# Altium integrated library Capacitors - Ceramic - 0402.IntLib: 4569 symbols (part 67 of 100)
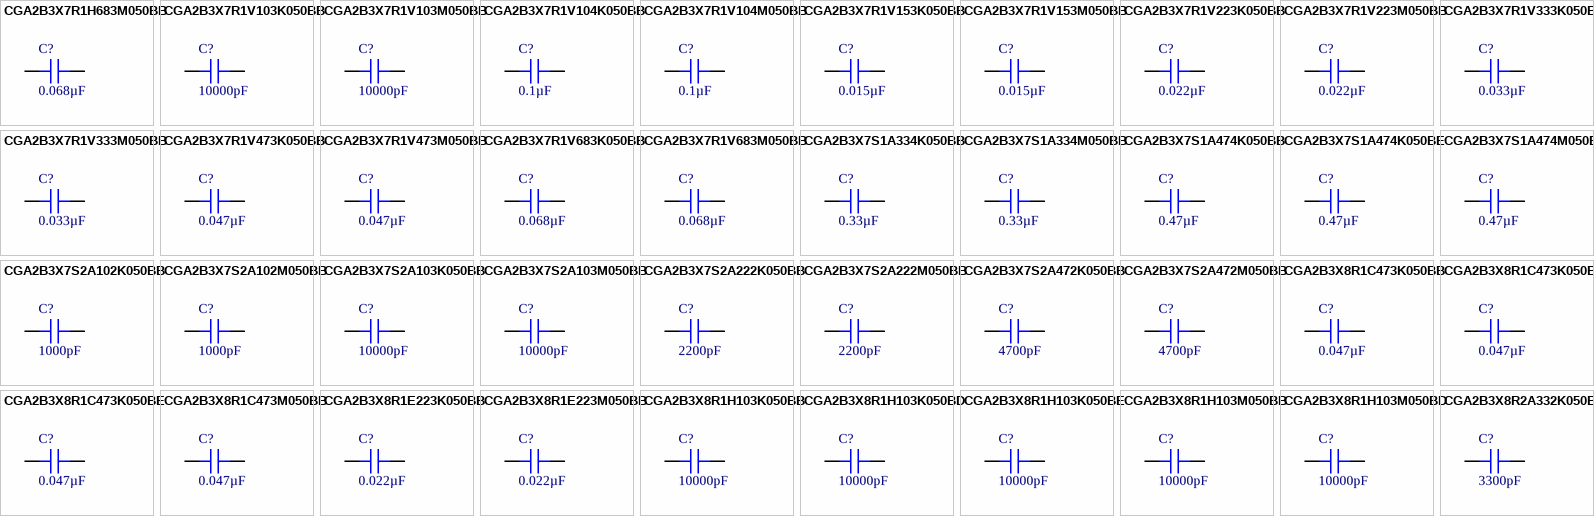
[diagram p180: symbols CGA2B3X7R1H683M050BB to CGA2B3X8R2A332K050BB]

## CGA2B3X8R1C473K050BE
designator C?, comment 0.047µF
CAP CER 0.047UF 16V X8R 0402; Part Number: CGA2B3X8R1C473K050BE; Manufacturer: TDK Corporation; Tolerance: ±10%; Value: 0.047µF; Applications: Automotive, Boardflex Sensitive; Capacitance: 0.047µF; ComponentLink1Description: Datasheet; ComponentLink1URL: https://product.tdk.com/info/en/catalog/datasheets/mlcc_automotive_soft_en.pdf?ref_disty=digikey; ComponentLink2Description: DigiKey Link; ComponentLink2URL: http://digikey.com/product-detail/en/tdk-corporation/CGA2B3X8R1C473K050BE/445-173843-1-ND/5809914; Device Package: 0402 (1005 Metric); Features: Soft Termination; LastUpdated: 9/2/2020 1:02:18 AM; Lifecycle Status: Active; Minimum Order: 1; Mounting Type: Surface Mount, MLCC; Operating Temperature: -55°C ~ 150°C; Package / Case: 0402 (1005 Metric); Packaging: TapeAndReel; PartId: 4360; Part Status: Active; Price: 0.04; Ratings: AEC-Q200; Series: CGA; Size / Dimension: 0.039" L x 0.020" W (1.00mm x 0.50mm); Supplier 1: DigiKey; Supplier Part Number 1: 445-173843-1-ND; Temperature Coefficient: X8R; Thickness (Max): 0.024" (0.60mm); Voltage - Rated: 16V
footprint CAP 0402_1005
pins: 1, 2

## CGA2B3X8R1C473M050BB
designator C?, comment 0.047µF
CAP CER 0.047UF 16V X8R 0402; Part Number: CGA2B3X8R1C473M050BB; Manufacturer: TDK Corporation; Tolerance: ±20%; Value: 0.047µF; Applications: Automotive; Capacitance: 0.047µF; ComponentLink1Description: Datasheet; ComponentLink1URL: https://product.tdk.com/info/en/catalog/datasheets/mlcc_automotive_hightemp_en.pdf?ref_disty=digikey; ComponentLink2Description: DigiKey Link; ComponentLink2URL: http://digikey.com/product-detail/en/tdk-corporation/CGA2B3X8R1C473M050BB/445-12296-1-ND/3953962; Device Package: 0402 (1005 Metric); Features: High Temperature; LastUpdated: 9/2/2020 1:02:04 AM; Lifecycle Status: Active; Minimum Order: 1; Mounting Type: Surface Mount, MLCC; Operating Temperature: -55°C ~ 150°C; Package / Case: 0402 (1005 Metric); Packaging: TapeAndReel; PartId: 10957; Part Status: Active; Price: 0.04; Ratings: AEC-Q200; Series: CGA; Size / Dimension: 0.039" L x 0.020" W (1.00mm x 0.50mm); Supplier 1: DigiKey; Supplier Part Number 1: 445-12296-1-ND; Temperature Coefficient: X8R; Thickness (Max): 0.022" (0.55mm); Voltage - Rated: 16V
footprint CAP 0402_1005
pins: 1, 2

## CGA2B3X8R1E223K050BB
designator C?, comment 0.022µF
CAP CER 0.022UF 25V X8R 0402; Part Number: CGA2B3X8R1E223K050BB; Manufacturer: TDK Corporation; Tolerance: ±10%; Value: 0.022µF; Applications: Automotive; Capacitance: 0.022µF; ComponentLink1Description: Datasheet; ComponentLink1URL: https://product.tdk.com/info/en/catalog/datasheets/mlcc_automotive_hightemp_en.pdf?ref_disty=digikey; ComponentLink2Description: DigiKey Link; ComponentLink2URL: http://digikey.com/product-detail/en/tdk-corporation/CGA2B3X8R1E223K050BB/445-12300-1-ND/3953966; Device Package: 0402 (1005 Metric); Features: High Temperature; LastUpdated: 9/2/2020 1:02:04 AM; Lifecycle Status: Active; Minimum Order: 1; Mounting Type: Surface Mount, MLCC; Operating Temperature: -55°C ~ 150°C; Package / Case: 0402 (1005 Metric); Packaging: TapeAndReel; PartId: 10963; Part Status: Active; Price: 0.04; Ratings: AEC-Q200; Series: CGA; Size / Dimension: 0.039" L x 0.020" W (1.00mm x 0.50mm); Supplier 1: DigiKey; Supplier Part Number 1: 445-12300-1-ND; Temperature Coefficient: X8R; Thickness (Max): 0.022" (0.55mm); Voltage - Rated: 25V
footprint CAP 0402_1005
pins: 1, 2

## CGA2B3X8R1E223M050BB
designator C?, comment 0.022µF
CAP CER 0.022UF 25V X8R 0402; Part Number: CGA2B3X8R1E223M050BB; Manufacturer: TDK Corporation; Tolerance: ±20%; Value: 0.022µF; Applications: Automotive; Capacitance: 0.022µF; ComponentLink1Description: Datasheet; ComponentLink1URL: https://product.tdk.com/info/en/catalog/datasheets/mlcc_automotive_hightemp_en.pdf?ref_disty=digikey; ComponentLink2Description: DigiKey Link; ComponentLink2URL: http://digikey.com/product-detail/en/tdk-corporation/CGA2B3X8R1E223M050BB/445-12301-1-ND/3953967; Device Package: 0402 (1005 Metric); Features: High Temperature; LastUpdated: 9/2/2020 1:02:18 AM; Lifecycle Status: Active; Minimum Order: 1; Mounting Type: Surface Mount, MLCC; Operating Temperature: -55°C ~ 150°C; Package / Case: 0402 (1005 Metric); Packaging: TapeAndReel; PartId: 4343; Part Status: Active; Price: 0.04; Ratings: AEC-Q200; Series: CGA; Size / Dimension: 0.039" L x 0.020" W (1.00mm x 0.50mm); Supplier 1: DigiKey; Supplier Part Number 1: 445-12301-1-ND; Temperature Coefficient: X8R; Thickness (Max): 0.022" (0.55mm); Voltage - Rated: 25V
footprint CAP 0402_1005
pins: 1, 2

## CGA2B3X8R1H103K050BB
designator C?, comment 10000pF
CAP CER 10000PF 50V X8R 0402; Part Number: CGA2B3X8R1H103K050BB; Manufacturer: TDK Corporation; Tolerance: ±10%; Value: 10000pF; Applications: Automotive; Capacitance: 10000pF; ComponentLink1Description: Datasheet; ComponentLink1URL: https://product.tdk.com/info/en/catalog/datasheets/mlcc_automotive_hightemp_en.pdf?ref_disty=digikey; ComponentLink2Description: DigiKey Link; ComponentLink2URL: http://digikey.com/product-detail/en/tdk-corporation/CGA2B3X8R1H103K050BB/445-12303-1-ND/3953969; Device Package: 0402 (1005 Metric); Features: High Temperature; LastUpdated: 9/2/2020 1:02:09 AM; Lifecycle Status: Active; Minimum Order: 1; Mounting Type: Surface Mount, MLCC; Operating Temperature: -55°C ~ 150°C; Package / Case: 0402 (1005 Metric); Packaging: TapeAndReel; PartId: 8680; Part Status: Active; Price: 0.03; Ratings: AEC-Q200; Series: CGA; Size / Dimension: 0.039" L x 0.020" W (1.00mm x 0.50mm); Supplier 1: DigiKey; Supplier Part Number 1: 445-12303-1-ND; Temperature Coefficient: X8R; Thickness (Max): 0.022" (0.55mm); Voltage - Rated: 50V
footprint CAP 0402_1005
pins: 1, 2

## CGA2B3X8R1H103K050BD
designator C?, comment 10000pF
CAP CER 10000PF 50V 0402 EPOXY; Part Number: CGA2B3X8R1H103K050BD; Manufacturer: TDK Corporation; Temperature Coefficient: X8R; Tolerance: ±10%; Value: 10000pF; Applications: Automotive; Capacitance: 10000pF; ComponentLink1Description: Datasheet; ComponentLink1URL: https://product.tdk.com/info/en/catalog/datasheets/mlcc_automotive_epoxy_en.pdf?ref_disty=digikey; ComponentLink2Description: DigiKey Link; ComponentLink2URL: http://digikey.com/product-detail/en/tdk-corporation/CGA2B3X8R1H103K050BD/445-9706-1-ND/3931633; Device Package: 0402 (1005 Metric); Features: Epoxy Mountable; LastUpdated: 9/2/2020 1:02:19 AM; Lifecycle Status: Active; Minimum Order: 1; Mounting Type: Surface Mount, MLCC, Epoxy; Operating Temperature: -55°C ~ 150°C; Package / Case: 0402 (1005 Metric); Packaging: TapeAndReel; PartId: 4269; Part Status: Active; Price: 0.04; Ratings: AEC-Q200; Series: CGA; Size / Dimension: 0.039" L x 0.020" W (1.00mm x 0.50mm); Supplier 1: DigiKey; Supplier Part Number 1: 445-9706-1-ND; Thickness (Max): 0.024" (0.60mm); Voltage - Rated: 50V
footprint CAP 0402_1005
pins: 1, 2

## CGA2B3X8R1H103K050BE
designator C?, comment 10000pF
CAP CER 10000PF 50V X8R 0402; Part Number: CGA2B3X8R1H103K050BE; Manufacturer: TDK Corporation; Tolerance: ±10%; Value: 10000pF; Applications: Automotive, Boardflex Sensitive; Capacitance: 10000pF; ComponentLink1Description: Datasheet; ComponentLink1URL: https://product.tdk.com/info/en/catalog/datasheets/mlcc_automotive_soft_en.pdf?ref_disty=digikey; ComponentLink2Description: DigiKey Link; ComponentLink2URL: http://digikey.com/product-detail/en/tdk-corporation/CGA2B3X8R1H103K050BE/445-173760-1-ND/5809831; Device Package: 0402 (1005 Metric); Features: Soft Termination; LastUpdated: 9/2/2020 1:02:04 AM; Lifecycle Status: Active; Minimum Order: 1; Mounting Type: Surface Mount, MLCC; Operating Temperature: -55°C ~ 150°C; Package / Case: 0402 (1005 Metric); Packaging: TapeAndReel; PartId: 10968; Part Status: Active; Price: 0.04; Ratings: AEC-Q200; Series: CGA; Size / Dimension: 0.039" L x 0.020" W (1.00mm x 0.50mm); Supplier 1: DigiKey; Supplier Part Number 1: 445-173760-1-ND; Temperature Coefficient: X8R; Thickness (Max): 0.024" (0.60mm); Voltage - Rated: 50V
footprint CAP 0402_1005
pins: 1, 2

## CGA2B3X8R1H103M050BB
designator C?, comment 10000pF
CAP CER 10000PF 50V X8R 0402; Part Number: CGA2B3X8R1H103M050BB; Manufacturer: TDK Corporation; Tolerance: ±20%; Value: 10000pF; Applications: Automotive; Capacitance: 10000pF; ComponentLink1Description: Datasheet; ComponentLink1URL: https://product.tdk.com/info/en/catalog/datasheets/mlcc_automotive_hightemp_en.pdf?ref_disty=digikey; ComponentLink2Description: DigiKey Link; ComponentLink2URL: http://digikey.com/product-detail/en/tdk-corporation/CGA2B3X8R1H103M050BB/445-12304-1-ND/3953970; Device Package: 0402 (1005 Metric); Features: High Temperature; LastUpdated: 9/2/2020 1:01:56 AM; Lifecycle Status: Active; Minimum Order: 1; Mounting Type: Surface Mount, MLCC; Operating Temperature: -55°C ~ 150°C; Package / Case: 0402 (1005 Metric); Packaging: TapeAndReel; PartId: 11982; Part Status: Active; Price: 0.03; Ratings: AEC-Q200; Series: CGA; Size / Dimension: 0.039" L x 0.020" W (1.00mm x 0.50mm); Supplier 1: DigiKey; Supplier Part Number 1: 445-12304-1-ND; Temperature Coefficient: X8R; Thickness (Max): 0.022" (0.55mm); Voltage - Rated: 50V
footprint CAP 0402_1005
pins: 1, 2

## CGA2B3X8R1H103M050BD
designator C?, comment 10000pF
CAP CER 10000PF 50V 0402 EPOXY; Part Number: CGA2B3X8R1H103M050BD; Manufacturer: TDK Corporation; Temperature Coefficient: X8R; Tolerance: ±20%; Value: 10000pF; Applications: Automotive; Capacitance: 10000pF; ComponentLink1Description: Datasheet; ComponentLink1URL: https://product.tdk.com/info/en/catalog/datasheets/mlcc_automotive_epoxy_en.pdf?ref_disty=digikey; ComponentLink2Description: DigiKey Link; ComponentLink2URL: http://digikey.com/product-detail/en/tdk-corporation/CGA2B3X8R1H103M050BD/445-9707-1-ND/3931634; Device Package: 0402 (1005 Metric); Features: Epoxy Mountable; LastUpdated: 9/2/2020 1:02:08 AM; Lifecycle Status: Active; Minimum Order: 1; Mounting Type: Surface Mount, MLCC, Epoxy; Operating Temperature: -55°C ~ 150°C; Package / Case: 0402 (1005 Metric); Packaging: TapeAndReel; PartId: 9236; Part Status: Active; Price: 0.04; Ratings: AEC-Q200; Series: CGA; Size / Dimension: 0.039" L x 0.020" W (1.00mm x 0.50mm); Supplier 1: DigiKey; Supplier Part Number 1: 445-9707-1-ND; Thickness (Max): 0.024" (0.60mm); Voltage - Rated: 50V
footprint CAP 0402_1005
pins: 1, 2

## CGA2B3X8R2A332K050BB
designator C?, comment 3300pF
CAP CER 3300PF 100V X8R 0402; Part Number: CGA2B3X8R2A332K050BB; Manufacturer: TDK Corporation; Tolerance: ±10%; Value: 3300pF; Applications: Automotive; Capacitance: 3300pF; ComponentLink1Description: Datasheet; ComponentLink1URL: https://product.tdk.com/info/en/catalog/datasheets/mlcc_automotive_hightemp_en.pdf?ref_disty=digikey; ComponentLink2Description: DigiKey Link; ComponentLink2URL: http://digikey.com/product-detail/en/tdk-corporation/CGA2B3X8R2A332K050BB/445-15951-1-ND/4490659; Device Package: 0402 (1005 Metric); Features: High Temperature; LastUpdated: 9/2/2020 1:02:00 AM; Lifecycle Status: Active; Minimum Order: 1; Mounting Type: Surface Mount, MLCC; Operating Temperature: -55°C ~ 150°C; Package / Case: 0402 (1005 Metric); Packaging: TapeAndReel; PartId: 11839; Part Status: Active; Price: 0.05; Ratings: AEC-Q200; Series: CGA; Size / Dimension: 0.039" L x 0.020" W (1.00mm x 0.50mm); Supplier 1: DigiKey; Supplier Part Number 1: 445-15951-1-ND; Temperature Coefficient: X8R; Thickness (Max): 0.022" (0.55mm); Voltage - Rated: 100V
footprint CAP 0402_1005
pins: 1, 2

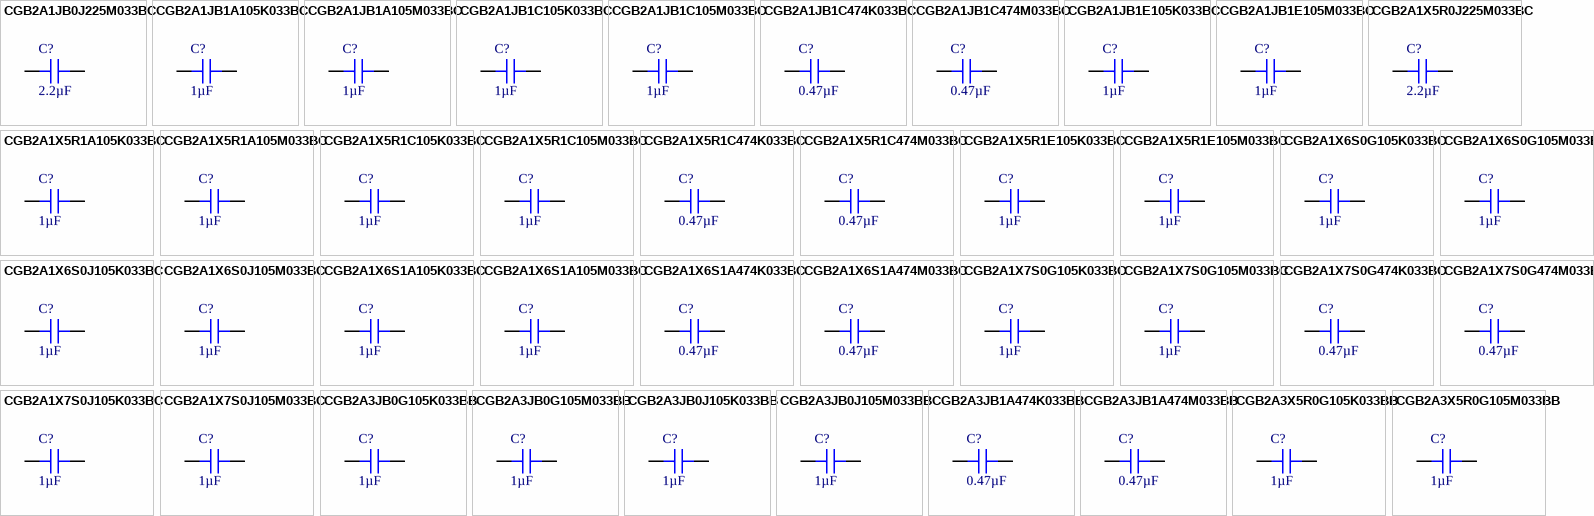
[diagram p76: symbols CGB2A1JB0J225M033BC to CGB2A3X5R0G105M033BB]

## CGB2A1JB0J225M033BC
designator C?, comment 2.2µF
CAP CER 2.2UF 6.3V JB 0402; Part Number: CGB2A1JB0J225M033BC; Manufacturer: TDK Corporation; Tolerance: ±20%; Value: 2.2µF; Applications: General Purpose; Capacitance: 2.2µF; ComponentLink1Description: Datasheet; ComponentLink1URL: https://product.tdk.com/info/en/catalog/datasheets/mlcc_commercial_lowprofile_en.pdf?ref_disty=digikey; ComponentLink2Description: DigiKey Link; ComponentLink2URL: http://digikey.com/product-detail/en/tdk-corporation/CGB2A1JB0J225M033BC/445-12008-1-ND/3953674; Device Package: 0402 (1005 Metric); Features: Low Profile; LastUpdated: 9/2/2020 1:02:20 AM; Lifecycle Status: Active; Minimum Order: 1; Mounting Type: Surface Mount, MLCC; Operating Temperature: -25°C ~ 85°C; Package / Case: 0402 (1005 Metric); Packaging: TapeAndReel; PartId: 3488; Part Status: Active; Price: 0.06; Series: CGB; Size / Dimension: 0.039" L x 0.020" W (1.00mm x 0.50mm); Supplier 1: DigiKey; Supplier Part Number 1: 445-12008-1-ND; Temperature Coefficient: JB; Thickness (Max): 0.013" (0.33mm); Voltage - Rated: 6.3V
footprint CAP 0402_1005
pins: 1, 2

## CGB2A1JB1A105K033BC
designator C?, comment 1µF
CAP CER 1UF 10V JB 0402; Part Number: CGB2A1JB1A105K033BC; Manufacturer: TDK Corporation; Tolerance: ±10%; Value: 1µF; Applications: General Purpose; Capacitance: 1µF; ComponentLink1Description: Datasheet; ComponentLink1URL: https://product.tdk.com/info/en/catalog/datasheets/mlcc_commercial_lowprofile_en.pdf?ref_disty=digikey; ComponentLink2Description: DigiKey Link; ComponentLink2URL: http://digikey.com/product-detail/en/tdk-corporation/CGB2A1JB1A105K033BC/445-12009-1-ND/3953675; Device Package: 0402 (1005 Metric); Features: Low Profile; LastUpdated: 9/2/2020 1:02:25 AM; Lifecycle Status: Active; Minimum Order: 1; Mounting Type: Surface Mount, MLCC; Operating Temperature: -25°C ~ 85°C; Package / Case: 0402 (1005 Metric); Packaging: TapeAndReel; PartId: 1798; Part Status: Active; Price: 0.02; Series: CGB; Size / Dimension: 0.039" L x 0.020" W (1.00mm x 0.50mm); Supplier 1: DigiKey; Supplier Part Number 1: 445-12009-1-ND; Temperature Coefficient: JB; Thickness (Max): 0.013" (0.33mm); Voltage - Rated: 10V
footprint CAP 0402_1005
pins: 1, 2

## CGB2A1JB1A105M033BC
designator C?, comment 1µF
CAP CER 1UF 10V JB 0402; Part Number: CGB2A1JB1A105M033BC; Manufacturer: TDK Corporation; Tolerance: ±20%; Value: 1µF; Applications: General Purpose; Capacitance: 1µF; ComponentLink1Description: Datasheet; ComponentLink1URL: https://product.tdk.com/info/en/catalog/datasheets/mlcc_commercial_lowprofile_en.pdf?ref_disty=digikey; ComponentLink2Description: DigiKey Link; ComponentLink2URL: http://digikey.com/product-detail/en/tdk-corporation/CGB2A1JB1A105M033BC/445-12010-1-ND/3953676; Device Package: 0402 (1005 Metric); Features: Low Profile; LastUpdated: 9/2/2020 1:01:57 AM; Lifecycle Status: Active; Minimum Order: 1; Mounting Type: Surface Mount, MLCC; Operating Temperature: -25°C ~ 85°C; Package / Case: 0402 (1005 Metric); Packaging: TapeAndReel; PartId: 11927; Part Status: Active; Price: 0.02; Series: CGB; Size / Dimension: 0.039" L x 0.020" W (1.00mm x 0.50mm); Supplier 1: DigiKey; Supplier Part Number 1: 445-12010-1-ND; Temperature Coefficient: JB; Thickness (Max): 0.013" (0.33mm); Voltage - Rated: 10V
footprint CAP 0402_1005
pins: 1, 2

## CGB2A1JB1C105K033BC
designator C?, comment 1µF
CAP CER 1UF 16V JB 0402; Part Number: CGB2A1JB1C105K033BC; Manufacturer: TDK Corporation; Tolerance: ±10%; Value: 1µF; Applications: General Purpose; Capacitance: 1µF; ComponentLink1Description: Datasheet; ComponentLink1URL: https://product.tdk.com/info/en/catalog/datasheets/mlcc_commercial_lowprofile_en.pdf?ref_disty=digikey; ComponentLink2Description: DigiKey Link; ComponentLink2URL: http://digikey.com/product-detail/en/tdk-corporation/CGB2A1JB1C105K033BC/445-12011-1-ND/3953677; Device Package: 0402 (1005 Metric); Features: Low Profile; LastUpdated: 9/2/2020 1:02:13 AM; Lifecycle Status: Active; Minimum Order: 1; Mounting Type: Surface Mount, MLCC; Operating Temperature: -25°C ~ 85°C; Package / Case: 0402 (1005 Metric); Packaging: TapeAndReel; PartId: 6895; Part Status: Active; Price: 0.03; Series: CGB; Size / Dimension: 0.039" L x 0.020" W (1.00mm x 0.50mm); Supplier 1: DigiKey; Supplier Part Number 1: 445-12011-1-ND; Temperature Coefficient: JB; Thickness (Max): 0.013" (0.33mm); Voltage - Rated: 16V
footprint CAP 0402_1005
pins: 1, 2

## CGB2A1JB1C105M033BC
designator C?, comment 1µF
CAP CER 1UF 16V JB 0402; Part Number: CGB2A1JB1C105M033BC; Manufacturer: TDK Corporation; Tolerance: ±20%; Value: 1µF; Applications: General Purpose; Capacitance: 1µF; ComponentLink1Description: Datasheet; ComponentLink1URL: https://product.tdk.com/info/en/catalog/datasheets/mlcc_commercial_lowprofile_en.pdf?ref_disty=digikey; ComponentLink2Description: DigiKey Link; ComponentLink2URL: http://digikey.com/product-detail/en/tdk-corporation/CGB2A1JB1C105M033BC/445-12012-1-ND/3953678; Device Package: 0402 (1005 Metric); Features: Low Profile; LastUpdated: 9/2/2020 1:02:13 AM; Lifecycle Status: Active; Minimum Order: 1; Mounting Type: Surface Mount, MLCC; Operating Temperature: -25°C ~ 85°C; Package / Case: 0402 (1005 Metric); Packaging: TapeAndReel; PartId: 6903; Part Status: Active; Price: 0.03; Series: CGB; Size / Dimension: 0.039" L x 0.020" W (1.00mm x 0.50mm); Supplier 1: DigiKey; Supplier Part Number 1: 445-12012-1-ND; Temperature Coefficient: JB; Thickness (Max): 0.013" (0.33mm); Voltage - Rated: 16V
footprint CAP 0402_1005
pins: 1, 2

## CGB2A1JB1C474K033BC
designator C?, comment 0.47µF
CAP CER 0.47UF 16V JB 0402; Part Number: CGB2A1JB1C474K033BC; Manufacturer: TDK Corporation; Tolerance: ±10%; Value: 0.47µF; Applications: General Purpose; Capacitance: 0.47µF; ComponentLink1Description: Datasheet; ComponentLink1URL: https://product.tdk.com/info/en/catalog/datasheets/mlcc_commercial_lowprofile_en.pdf?ref_disty=digikey; ComponentLink2Description: DigiKey Link; ComponentLink2URL: http://digikey.com/product-detail/en/tdk-corporation/CGB2A1JB1C474K033BC/445-12013-1-ND/3953679; Device Package: 0402 (1005 Metric); Features: Low Profile; LastUpdated: 9/2/2020 1:02:13 AM; Lifecycle Status: Active; Minimum Order: 1; Mounting Type: Surface Mount, MLCC; Operating Temperature: -25°C ~ 85°C; Package / Case: 0402 (1005 Metric); Packaging: TapeAndReel; PartId: 6919; Part Status: Active; Price: 0.03; Series: CGB; Size / Dimension: 0.039" L x 0.020" W (1.00mm x 0.50mm); Supplier 1: DigiKey; Supplier Part Number 1: 445-12013-1-ND; Temperature Coefficient: JB; Thickness (Max): 0.013" (0.33mm); Voltage - Rated: 16V
footprint CAP 0402_1005
pins: 1, 2

## CGB2A1JB1C474M033BC
designator C?, comment 0.47µF
CAP CER 0.47UF 16V JB 0402; Part Number: CGB2A1JB1C474M033BC; Manufacturer: TDK Corporation; Tolerance: ±20%; Value: 0.47µF; Applications: General Purpose; Capacitance: 0.47µF; ComponentLink1Description: Datasheet; ComponentLink1URL: https://product.tdk.com/info/en/catalog/datasheets/mlcc_commercial_lowprofile_en.pdf?ref_disty=digikey; ComponentLink2Description: DigiKey Link; ComponentLink2URL: http://digikey.com/product-detail/en/tdk-corporation/CGB2A1JB1C474M033BC/445-12014-1-ND/3953680; Device Package: 0402 (1005 Metric); Features: Low Profile; LastUpdated: 9/2/2020 1:01:56 AM; Lifecycle Status: Active; Minimum Order: 1; Mounting Type: Surface Mount, MLCC; Operating Temperature: -25°C ~ 85°C; Package / Case: 0402 (1005 Metric); Packaging: TapeAndReel; PartId: 11991; Part Status: Active; Price: 0.03; Series: CGB; Size / Dimension: 0.039" L x 0.020" W (1.00mm x 0.50mm); Supplier 1: DigiKey; Supplier Part Number 1: 445-12014-1-ND; Temperature Coefficient: JB; Thickness (Max): 0.013" (0.33mm); Voltage - Rated: 16V
footprint CAP 0402_1005
pins: 1, 2

## CGB2A1JB1E105K033BC
designator C?, comment 1µF
CAP CER 1UF 25V JB 0402; Part Number: CGB2A1JB1E105K033BC; Manufacturer: TDK Corporation; Tolerance: ±10%; Value: 1µF; Applications: General Purpose; Capacitance: 1µF; ComponentLink1Description: Datasheet; ComponentLink1URL: https://product.tdk.com/info/en/catalog/datasheets/mlcc_commercial_lowprofile_en.pdf?ref_disty=digikey; ComponentLink2Description: DigiKey Link; ComponentLink2URL: http://digikey.com/product-detail/en/tdk-corporation/CGB2A1JB1E105K033BC/445-12015-1-ND/3953681; Device Package: 0402 (1005 Metric); Features: Low Profile; LastUpdated: 9/2/2020 1:02:17 AM; Lifecycle Status: Active; Minimum Order: 1; Mounting Type: Surface Mount, MLCC; Operating Temperature: -25°C ~ 85°C; Package / Case: 0402 (1005 Metric); Packaging: TapeAndReel; PartId: 5038; Part Status: Active; Price: 0.03; Series: CGB; Size / Dimension: 0.039" L x 0.020" W (1.00mm x 0.50mm); Supplier 1: DigiKey; Supplier Part Number 1: 445-12015-1-ND; Temperature Coefficient: JB; Thickness (Max): 0.013" (0.33mm); Voltage - Rated: 25V
footprint CAP 0402_1005
pins: 1, 2

## CGB2A1JB1E105M033BC
designator C?, comment 1µF
CAP CER 1UF 25V JB 0402; Part Number: CGB2A1JB1E105M033BC; Manufacturer: TDK Corporation; Tolerance: ±20%; Value: 1µF; Applications: General Purpose; Capacitance: 1µF; ComponentLink1Description: Datasheet; ComponentLink1URL: https://product.tdk.com/info/en/catalog/datasheets/mlcc_commercial_lowprofile_en.pdf?ref_disty=digikey; ComponentLink2Description: DigiKey Link; ComponentLink2URL: http://digikey.com/product-detail/en/tdk-corporation/CGB2A1JB1E105M033BC/445-12016-1-ND/3953682; Device Package: 0402 (1005 Metric); Features: Low Profile; LastUpdated: 9/2/2020 1:02:13 AM; Lifecycle Status: Active; Minimum Order: 1; Mounting Type: Surface Mount, MLCC; Operating Temperature: -25°C ~ 85°C; Package / Case: 0402 (1005 Metric); Packaging: TapeAndReel; PartId: 6888; Part Status: Active; Price: 0.03; Series: CGB; Size / Dimension: 0.039" L x 0.020" W (1.00mm x 0.50mm); Supplier 1: DigiKey; Supplier Part Number 1: 445-12016-1-ND; Temperature Coefficient: JB; Thickness (Max): 0.013" (0.33mm); Voltage - Rated: 25V
footprint CAP 0402_1005
pins: 1, 2

## CGB2A1X5R0J225M033BC
designator C?, comment 2.2µF
CAP CER 2.2UF 6.3V X5R 0402; Part Number: CGB2A1X5R0J225M033BC; Manufacturer: TDK Corporation; Tolerance: ±20%; Value: 2.2µF; Applications: General Purpose; Capacitance: 2.2µF; ComponentLink1Description: Datasheet; ComponentLink1URL: https://product.tdk.com/info/en/catalog/datasheets/mlcc_commercial_lowprofile_en.pdf?ref_disty=digikey; ComponentLink2Description: DigiKey Link; ComponentLink2URL: http://digikey.com/product-detail/en/tdk-corporation/CGB2A1X5R0J225M033BC/445-13178-1-ND/3954844; Device Package: 0402 (1005 Metric); Features: Low Profile; LastUpdated: 9/2/2020 1:02:18 AM; Lifecycle Status: Active; Minimum Order: 1; Mounting Type: Surface Mount, MLCC; Operating Temperature: -55°C ~ 85°C; Package / Case: 0402 (1005 Metric); Packaging: TapeAndReel; PartId: 4503; Part Status: Active; Price: 0.06; Series: CGB; Size / Dimension: 0.039" L x 0.020" W (1.00mm x 0.50mm); Supplier 1: DigiKey; Supplier Part Number 1: 445-13178-1-ND; Temperature Coefficient: X5R; Thickness (Max): 0.013" (0.33mm); Voltage - Rated: 6.3V
footprint CAP 0402_1005
pins: 1, 2

## CGB2A1X5R1A105K033BC
designator C?, comment 1µF
CAP CER 1UF 10V X5R 0402; Part Number: CGB2A1X5R1A105K033BC; Manufacturer: TDK Corporation; Tolerance: ±10%; Value: 1µF; Applications: General Purpose; Capacitance: 1µF; ComponentLink1Description: Datasheet; ComponentLink1URL: https://product.tdk.com/info/en/catalog/datasheets/mlcc_commercial_lowprofile_en.pdf?ref_disty=digikey; ComponentLink2Description: DigiKey Link; ComponentLink2URL: http://digikey.com/product-detail/en/tdk-corporation/CGB2A1X5R1A105K033BC/445-13179-1-ND/3954845; Device Package: 0402 (1005 Metric); Features: Low Profile; LastUpdated: 9/2/2020 1:02:25 AM; Lifecycle Status: Active; Minimum Order: 1; Mounting Type: Surface Mount, MLCC; Operating Temperature: -55°C ~ 85°C; Package / Case: 0402 (1005 Metric); Packaging: TapeAndReel; PartId: 1796; Part Status: Active; Price: 0.02; Series: CGB; Size / Dimension: 0.039" L x 0.020" W (1.00mm x 0.50mm); Supplier 1: DigiKey; Supplier Part Number 1: 445-13179-1-ND; Temperature Coefficient: X5R; Thickness (Max): 0.013" (0.33mm); Voltage - Rated: 10V
footprint CAP 0402_1005
pins: 1, 2

## CGB2A1X5R1A105M033BC
designator C?, comment 1µF
CAP CER 1UF 10V X5R 0402; Part Number: CGB2A1X5R1A105M033BC; Manufacturer: TDK Corporation; Tolerance: ±20%; Value: 1µF; Applications: General Purpose; Capacitance: 1µF; ComponentLink1Description: Datasheet; ComponentLink1URL: https://product.tdk.com/info/en/catalog/datasheets/mlcc_commercial_lowprofile_en.pdf?ref_disty=digikey; ComponentLink2Description: DigiKey Link; ComponentLink2URL: http://digikey.com/product-detail/en/tdk-corporation/CGB2A1X5R1A105M033BC/445-13180-1-ND/3954846; Device Package: 0402 (1005 Metric); Features: Low Profile; LastUpdated: 9/2/2020 1:02:06 AM; Lifecycle Status: Active; Minimum Order: 1; Mounting Type: Surface Mount, MLCC; Operating Temperature: -55°C ~ 85°C; Package / Case: 0402 (1005 Metric); Packaging: TapeAndReel; PartId: 9782; Part Status: Active; Price: 0.03; Series: CGB; Size / Dimension: 0.039" L x 0.020" W (1.00mm x 0.50mm); Supplier 1: DigiKey; Supplier Part Number 1: 445-13180-1-ND; Temperature Coefficient: X5R; Thickness (Max): 0.013" (0.33mm); Voltage - Rated: 10V
footprint CAP 0402_1005
pins: 1, 2

## CGB2A1X5R1C105K033BC
designator C?, comment 1µF
CAP CER 1UF 16V X5R 0402; Part Number: CGB2A1X5R1C105K033BC; Manufacturer: TDK Corporation; Tolerance: ±10%; Value: 1µF; Applications: General Purpose; Capacitance: 1µF; ComponentLink1Description: Datasheet; ComponentLink1URL: https://product.tdk.com/info/en/catalog/datasheets/mlcc_commercial_lowprofile_en.pdf?ref_disty=digikey; ComponentLink2Description: DigiKey Link; ComponentLink2URL: http://digikey.com/product-detail/en/tdk-corporation/CGB2A1X5R1C105K033BC/445-13181-1-ND/3954847; Device Package: 0402 (1005 Metric); Features: Low Profile; LastUpdated: 9/2/2020 1:02:09 AM; Lifecycle Status: Active; Minimum Order: 1; Mounting Type: Surface Mount, MLCC; Operating Temperature: -55°C ~ 85°C; Package / Case: 0402 (1005 Metric); Packaging: TapeAndReel; PartId: 8689; Part Status: Active; Price: 0.03; Series: CGB; Size / Dimension: 0.039" L x 0.020" W (1.00mm x 0.50mm); Supplier 1: DigiKey; Supplier Part Number 1: 445-13181-1-ND; Temperature Coefficient: X5R; Thickness (Max): 0.013" (0.33mm); Voltage - Rated: 16V
footprint CAP 0402_1005
pins: 1, 2

## CGB2A1X5R1C105M033BC
designator C?, comment 1µF
CAP CER 1UF 16V X5R 0402; Part Number: CGB2A1X5R1C105M033BC; Manufacturer: TDK Corporation; Tolerance: ±20%; Value: 1µF; Applications: General Purpose; Capacitance: 1µF; ComponentLink1Description: Datasheet; ComponentLink1URL: https://product.tdk.com/info/en/catalog/datasheets/mlcc_commercial_lowprofile_en.pdf?ref_disty=digikey; ComponentLink2Description: DigiKey Link; ComponentLink2URL: http://digikey.com/product-detail/en/tdk-corporation/CGB2A1X5R1C105M033BC/445-13182-1-ND/3954848; Device Package: 0402 (1005 Metric); Features: Low Profile; LastUpdated: 9/2/2020 1:02:06 AM; Lifecycle Status: Active; Minimum Order: 1; Mounting Type: Surface Mount, MLCC; Operating Temperature: -55°C ~ 85°C; Package / Case: 0402 (1005 Metric); Packaging: TapeAndReel; PartId: 9813; Part Status: Active; Price: 0.03; Series: CGB; Size / Dimension: 0.039" L x 0.020" W (1.00mm x 0.50mm); Supplier 1: DigiKey; Supplier Part Number 1: 445-13182-1-ND; Temperature Coefficient: X5R; Thickness (Max): 0.013" (0.33mm); Voltage - Rated: 16V
footprint CAP 0402_1005
pins: 1, 2

## CGB2A1X5R1C474K033BC
designator C?, comment 0.47µF
CAP CER 0.47UF 16V X5R 0402; Part Number: CGB2A1X5R1C474K033BC; Manufacturer: TDK Corporation; Tolerance: ±10%; Value: 0.47µF; Applications: General Purpose; Capacitance: 0.47µF; ComponentLink1Description: Datasheet; ComponentLink1URL: https://product.tdk.com/info/en/catalog/datasheets/mlcc_commercial_lowprofile_en.pdf?ref_disty=digikey; ComponentLink2Description: DigiKey Link; ComponentLink2URL: http://digikey.com/product-detail/en/tdk-corporation/CGB2A1X5R1C474K033BC/445-13183-1-ND/3954849; Device Package: 0402 (1005 Metric); Features: Low Profile; LastUpdated: 9/2/2020 1:02:13 AM; Lifecycle Status: Active; Minimum Order: 1; Mounting Type: Surface Mount, MLCC; Operating Temperature: -55°C ~ 85°C; Package / Case: 0402 (1005 Metric); Packaging: TapeAndReel; PartId: 6912; Part Status: Active; Price: 0.03; Series: CGB; Size / Dimension: 0.039" L x 0.020" W (1.00mm x 0.50mm); Supplier 1: DigiKey; Supplier Part Number 1: 445-13183-1-ND; Temperature Coefficient: X5R; Thickness (Max): 0.013" (0.33mm); Voltage - Rated: 16V
footprint CAP 0402_1005
pins: 1, 2

## CGB2A1X5R1C474M033BC
designator C?, comment 0.47µF
CAP CER 0.47UF 16V X5R 0402; Part Number: CGB2A1X5R1C474M033BC; Manufacturer: TDK Corporation; Tolerance: ±20%; Value: 0.47µF; Applications: General Purpose; Capacitance: 0.47µF; ComponentLink1Description: Datasheet; ComponentLink1URL: https://product.tdk.com/info/en/catalog/datasheets/mlcc_commercial_lowprofile_en.pdf?ref_disty=digikey; ComponentLink2Description: DigiKey Link; ComponentLink2URL: http://digikey.com/product-detail/en/tdk-corporation/CGB2A1X5R1C474M033BC/445-13184-1-ND/3954850; Device Package: 0402 (1005 Metric); Features: Low Profile; LastUpdated: 9/2/2020 1:02:04 AM; Lifecycle Status: Active; Minimum Order: 1; Mounting Type: Surface Mount, MLCC; Operating Temperature: -55°C ~ 85°C; Package / Case: 0402 (1005 Metric); Packaging: TapeAndReel; PartId: 10913; Part Status: Active; Price: 0.03; Series: CGB; Size / Dimension: 0.039" L x 0.020" W (1.00mm x 0.50mm); Supplier 1: DigiKey; Supplier Part Number 1: 445-13184-1-ND; Temperature Coefficient: X5R; Thickness (Max): 0.013" (0.33mm); Voltage - Rated: 16V
footprint CAP 0402_1005
pins: 1, 2

## CGB2A1X5R1E105K033BC
designator C?, comment 1µF
CAP CER 1UF 25V X5R 0402; Part Number: CGB2A1X5R1E105K033BC; Manufacturer: TDK Corporation; Tolerance: ±10%; Value: 1µF; Applications: General Purpose; Capacitance: 1µF; ComponentLink1Description: Datasheet; ComponentLink1URL: https://product.tdk.com/info/en/catalog/datasheets/mlcc_commercial_lowprofile_en.pdf?ref_disty=digikey; ComponentLink2Description: DigiKey Link; ComponentLink2URL: http://digikey.com/product-detail/en/tdk-corporation/CGB2A1X5R1E105K033BC/445-13185-1-ND/3954851; Device Package: 0402 (1005 Metric); Features: Low Profile; LastUpdated: 9/2/2020 1:02:09 AM; Lifecycle Status: Active; Minimum Order: 1; Mounting Type: Surface Mount, MLCC; Operating Temperature: -55°C ~ 85°C; Package / Case: 0402 (1005 Metric); Packaging: TapeAndReel; PartId: 8717; Part Status: Active; Price: 0.03; Series: CGB; Size / Dimension: 0.039" L x 0.020" W (1.00mm x 0.50mm); Supplier 1: DigiKey; Supplier Part Number 1: 445-13185-1-ND; Temperature Coefficient: X5R; Thickness (Max): 0.013" (0.33mm); Voltage - Rated: 25V
footprint CAP 0402_1005
pins: 1, 2

## CGB2A1X5R1E105M033BC
designator C?, comment 1µF
CAP CER 1UF 25V X5R 0402; Part Number: CGB2A1X5R1E105M033BC; Manufacturer: TDK Corporation; Tolerance: ±20%; Value: 1µF; Applications: General Purpose; Capacitance: 1µF; ComponentLink1Description: Datasheet; ComponentLink1URL: https://product.tdk.com/info/en/catalog/datasheets/mlcc_commercial_lowprofile_en.pdf?ref_disty=digikey; ComponentLink2Description: DigiKey Link; ComponentLink2URL: http://digikey.com/product-detail/en/tdk-corporation/CGB2A1X5R1E105M033BC/445-13186-1-ND/3954852; Device Package: 0402 (1005 Metric); Features: Low Profile; LastUpdated: 9/2/2020 1:02:14 AM; Lifecycle Status: Active; Minimum Order: 1; Mounting Type: Surface Mount, MLCC; Operating Temperature: -55°C ~ 85°C; Package / Case: 0402 (1005 Metric); Packaging: TapeAndReel; PartId: 6474; Part Status: Active; Price: 0.03; Series: CGB; Size / Dimension: 0.039" L x 0.020" W (1.00mm x 0.50mm); Supplier 1: DigiKey; Supplier Part Number 1: 445-13186-1-ND; Temperature Coefficient: X5R; Thickness (Max): 0.013" (0.33mm); Voltage - Rated: 25V
footprint CAP 0402_1005
pins: 1, 2

## CGB2A1X6S0G105K033BC
designator C?, comment 1µF
CAP CER 1UF 4V X6S 0402; Part Number: CGB2A1X6S0G105K033BC; Manufacturer: TDK Corporation; Tolerance: ±10%; Value: 1µF; Applications: General Purpose; Capacitance: 1µF; ComponentLink1Description: Datasheet; ComponentLink1URL: https://product.tdk.com/info/en/catalog/datasheets/mlcc_commercial_lowprofile_en.pdf?ref_disty=digikey; ComponentLink2Description: DigiKey Link; ComponentLink2URL: http://digikey.com/product-detail/en/tdk-corporation/CGB2A1X6S0G105K033BC/445-13187-1-ND/3954853; Device Package: 0402 (1005 Metric); Features: Low Profile; LastUpdated: 9/2/2020 1:01:57 AM; Lifecycle Status: Active; Minimum Order: 1; Mounting Type: Surface Mount, MLCC; Operating Temperature: -55°C ~ 105°C; Package / Case: 0402 (1005 Metric); Packaging: TapeAndReel; PartId: 11929; Part Status: Active; Price: 0.02; Series: CGB; Size / Dimension: 0.039" L x 0.020" W (1.00mm x 0.50mm); Supplier 1: DigiKey; Supplier Part Number 1: 445-13187-1-ND; Temperature Coefficient: X6S; Thickness (Max): 0.013" (0.33mm); Voltage - Rated: 4V
footprint CAP 0402_1005
pins: 1, 2

## CGB2A1X6S0G105M033BC
designator C?, comment 1µF
CAP CER 1UF 4V X6S 0402; Part Number: CGB2A1X6S0G105M033BC; Manufacturer: TDK Corporation; Tolerance: ±20%; Value: 1µF; Applications: General Purpose; Capacitance: 1µF; ComponentLink1Description: Datasheet; ComponentLink1URL: https://product.tdk.com/info/en/catalog/datasheets/mlcc_commercial_lowprofile_en.pdf?ref_disty=digikey; ComponentLink2Description: DigiKey Link; ComponentLink2URL: http://digikey.com/product-detail/en/tdk-corporation/CGB2A1X6S0G105M033BC/445-13188-1-ND/3954854; Device Package: 0402 (1005 Metric); Features: Low Profile; LastUpdated: 9/2/2020 1:01:58 AM; Lifecycle Status: Active; Minimum Order: 1; Mounting Type: Surface Mount, MLCC; Operating Temperature: -55°C ~ 105°C; Package / Case: 0402 (1005 Metric); Packaging: TapeAndReel; PartId: 11892; Part Status: Active; Price: 0.02; Series: CGB; Size / Dimension: 0.039" L x 0.020" W (1.00mm x 0.50mm); Supplier 1: DigiKey; Supplier Part Number 1: 445-13188-1-ND; Temperature Coefficient: X6S; Thickness (Max): 0.013" (0.33mm); Voltage - Rated: 4V
footprint CAP 0402_1005
pins: 1, 2

## CGB2A1X6S0J105K033BC
designator C?, comment 1µF
CAP CER 1UF 6.3V X6S 0402; Part Number: CGB2A1X6S0J105K033BC; Manufacturer: TDK Corporation; Tolerance: ±10%; Value: 1µF; Applications: General Purpose; Capacitance: 1µF; ComponentLink1Description: Datasheet; ComponentLink1URL: https://product.tdk.com/info/en/catalog/datasheets/mlcc_commercial_lowprofile_en.pdf?ref_disty=digikey; ComponentLink2Description: DigiKey Link; ComponentLink2URL: http://digikey.com/product-detail/en/tdk-corporation/CGB2A1X6S0J105K033BC/445-13189-1-ND/3954855; Device Package: 0402 (1005 Metric); Features: Low Profile; LastUpdated: 9/2/2020 1:01:56 AM; Lifecycle Status: Active; Minimum Order: 1; Mounting Type: Surface Mount, MLCC; Operating Temperature: -55°C ~ 105°C; Package / Case: 0402 (1005 Metric); Packaging: TapeAndReel; PartId: 11973; Part Status: Active; Price: 0.03; Series: CGB; Size / Dimension: 0.039" L x 0.020" W (1.00mm x 0.50mm); Supplier 1: DigiKey; Supplier Part Number 1: 445-13189-1-ND; Temperature Coefficient: X6S; Thickness (Max): 0.013" (0.33mm); Voltage - Rated: 6.3V
footprint CAP 0402_1005
pins: 1, 2

## CGB2A1X6S0J105M033BC
designator C?, comment 1µF
CAP CER 1UF 6.3V X6S 0402; Part Number: CGB2A1X6S0J105M033BC; Manufacturer: TDK Corporation; Tolerance: ±20%; Value: 1µF; Applications: General Purpose; Capacitance: 1µF; ComponentLink1Description: Datasheet; ComponentLink1URL: https://product.tdk.com/info/en/catalog/datasheets/mlcc_commercial_lowprofile_en.pdf?ref_disty=digikey; ComponentLink2Description: DigiKey Link; ComponentLink2URL: http://digikey.com/product-detail/en/tdk-corporation/CGB2A1X6S0J105M033BC/445-13190-1-ND/3954856; Device Package: 0402 (1005 Metric); Features: Low Profile; LastUpdated: 9/2/2020 1:01:56 AM; Lifecycle Status: Active; Minimum Order: 1; Mounting Type: Surface Mount, MLCC; Operating Temperature: -55°C ~ 105°C; Package / Case: 0402 (1005 Metric); Packaging: TapeAndReel; PartId: 11970; Part Status: Active; Price: 0.03; Series: CGB; Size / Dimension: 0.039" L x 0.020" W (1.00mm x 0.50mm); Supplier 1: DigiKey; Supplier Part Number 1: 445-13190-1-ND; Temperature Coefficient: X6S; Thickness (Max): 0.013" (0.33mm); Voltage - Rated: 6.3V
footprint CAP 0402_1005
pins: 1, 2

## CGB2A1X6S1A105K033BC
designator C?, comment 1µF
CAP CER 1UF 10V X6S 0402; Part Number: CGB2A1X6S1A105K033BC; Manufacturer: TDK Corporation; Tolerance: ±10%; Value: 1µF; Applications: General Purpose; Capacitance: 1µF; ComponentLink1Description: Datasheet; ComponentLink1URL: https://product.tdk.com/info/en/catalog/datasheets/mlcc_commercial_lowprofile_en.pdf?ref_disty=digikey; ComponentLink2Description: DigiKey Link; ComponentLink2URL: http://digikey.com/product-detail/en/tdk-corporation/CGB2A1X6S1A105K033BC/445-13191-1-ND/3954857; Device Package: 0402 (1005 Metric); Features: Low Profile; LastUpdated: 9/2/2020 1:02:07 AM; Lifecycle Status: Active; Minimum Order: 1; Mounting Type: Surface Mount, MLCC; Operating Temperature: -55°C ~ 105°C; Package / Case: 0402 (1005 Metric); Packaging: TapeAndReel; PartId: 9754; Part Status: Active; Price: 0.03; Series: CGB; Size / Dimension: 0.039" L x 0.020" W (1.00mm x 0.50mm); Supplier 1: DigiKey; Supplier Part Number 1: 445-13191-1-ND; Temperature Coefficient: X6S; Thickness (Max): 0.013" (0.33mm); Voltage - Rated: 10V
footprint CAP 0402_1005
pins: 1, 2

## CGB2A1X6S1A105M033BC
designator C?, comment 1µF
CAP CER 1UF 10V X6S 0402; Part Number: CGB2A1X6S1A105M033BC; Manufacturer: TDK Corporation; Tolerance: ±20%; Value: 1µF; Applications: General Purpose; Capacitance: 1µF; ComponentLink1Description: Datasheet; ComponentLink1URL: https://product.tdk.com/info/en/catalog/datasheets/mlcc_commercial_lowprofile_en.pdf?ref_disty=digikey; ComponentLink2Description: DigiKey Link; ComponentLink2URL: http://digikey.com/product-detail/en/tdk-corporation/CGB2A1X6S1A105M033BC/445-13192-1-ND/3954858; Device Package: 0402 (1005 Metric); Features: Low Profile; LastUpdated: 9/2/2020 1:02:07 AM; Lifecycle Status: Active; Minimum Order: 1; Mounting Type: Surface Mount, MLCC; Operating Temperature: -55°C ~ 105°C; Package / Case: 0402 (1005 Metric); Packaging: TapeAndReel; PartId: 9761; Part Status: Active; Price: 0.03; Series: CGB; Size / Dimension: 0.039" L x 0.020" W (1.00mm x 0.50mm); Supplier 1: DigiKey; Supplier Part Number 1: 445-13192-1-ND; Temperature Coefficient: X6S; Thickness (Max): 0.013" (0.33mm); Voltage - Rated: 10V
footprint CAP 0402_1005
pins: 1, 2

## CGB2A1X6S1A474K033BC
designator C?, comment 0.47µF
CAP CER 0.47UF 10V X6S 0402; Part Number: CGB2A1X6S1A474K033BC; Manufacturer: TDK Corporation; Tolerance: ±10%; Value: 0.47µF; Applications: General Purpose; Capacitance: 0.47µF; ComponentLink1Description: Datasheet; ComponentLink1URL: https://product.tdk.com/info/en/catalog/datasheets/mlcc_commercial_lowprofile_en.pdf?ref_disty=digikey; ComponentLink2Description: DigiKey Link; ComponentLink2URL: http://digikey.com/product-detail/en/tdk-corporation/CGB2A1X6S1A474K033BC/445-13193-1-ND/3954859; Device Package: 0402 (1005 Metric); Features: Low Profile; LastUpdated: 9/2/2020 1:02:13 AM; Lifecycle Status: Active; Minimum Order: 1; Mounting Type: Surface Mount, MLCC; Operating Temperature: -55°C ~ 105°C; Package / Case: 0402 (1005 Metric); Packaging: TapeAndReel; PartId: 6921; Part Status: Active; Price: 0.03; Series: CGB; Size / Dimension: 0.039" L x 0.020" W (1.00mm x 0.50mm); Supplier 1: DigiKey; Supplier Part Number 1: 445-13193-1-ND; Temperature Coefficient: X6S; Thickness (Max): 0.013" (0.33mm); Voltage - Rated: 10V
footprint CAP 0402_1005
pins: 1, 2

## CGB2A1X6S1A474M033BC
designator C?, comment 0.47µF
CAP CER 0.47UF 10V X6S 0402; Part Number: CGB2A1X6S1A474M033BC; Manufacturer: TDK Corporation; Tolerance: ±20%; Value: 0.47µF; Applications: General Purpose; Capacitance: 0.47µF; ComponentLink1Description: Datasheet; ComponentLink1URL: https://product.tdk.com/info/en/catalog/datasheets/mlcc_commercial_lowprofile_en.pdf?ref_disty=digikey; ComponentLink2Description: DigiKey Link; ComponentLink2URL: http://digikey.com/product-detail/en/tdk-corporation/CGB2A1X6S1A474M033BC/445-13194-1-ND/3954860; Device Package: 0402 (1005 Metric); Features: Low Profile; LastUpdated: 9/2/2020 1:02:14 AM; Lifecycle Status: Active; Minimum Order: 1; Mounting Type: Surface Mount, MLCC; Operating Temperature: -55°C ~ 105°C; Package / Case: 0402 (1005 Metric); Packaging: TapeAndReel; PartId: 6472; Part Status: Active; Price: 0.03; Series: CGB; Size / Dimension: 0.039" L x 0.020" W (1.00mm x 0.50mm); Supplier 1: DigiKey; Supplier Part Number 1: 445-13194-1-ND; Temperature Coefficient: X6S; Thickness (Max): 0.013" (0.33mm); Voltage - Rated: 10V
footprint CAP 0402_1005
pins: 1, 2

## CGB2A1X7S0G105K033BC
designator C?, comment 1µF
CAP CER 1UF 4V X7S 0402; Part Number: CGB2A1X7S0G105K033BC; Manufacturer: TDK Corporation; Tolerance: ±10%; Value: 1µF; Applications: General Purpose; Capacitance: 1µF; ComponentLink1Description: Datasheet; ComponentLink1URL: https://product.tdk.com/info/en/catalog/datasheets/mlcc_commercial_lowprofile_en.pdf?ref_disty=digikey; ComponentLink2Description: DigiKey Link; ComponentLink2URL: http://digikey.com/product-detail/en/tdk-corporation/CGB2A1X7S0G105K033BC/445-13195-1-ND/3954861; Device Package: 0402 (1005 Metric); Features: Low Profile; LastUpdated: 9/2/2020 1:02:08 AM; Lifecycle Status: Active; Minimum Order: 1; Mounting Type: Surface Mount, MLCC; Operating Temperature: -55°C ~ 125°C; Package / Case: 0402 (1005 Metric); Packaging: TapeAndReel; PartId: 9302; Part Status: Active; Price: 0.04; Series: CGB; Size / Dimension: 0.039" L x 0.020" W (1.00mm x 0.50mm); Supplier 1: DigiKey; Supplier Part Number 1: 445-13195-1-ND; Temperature Coefficient: X7S; Thickness (Max): 0.013" (0.33mm); Voltage - Rated: 4V
footprint CAP 0402_1005
pins: 1, 2

## CGB2A1X7S0G105M033BC
designator C?, comment 1µF
CAP CER 1UF 4V X7S 0402; Part Number: CGB2A1X7S0G105M033BC; Manufacturer: TDK Corporation; Tolerance: ±20%; Value: 1µF; Applications: General Purpose; Capacitance: 1µF; ComponentLink1Description: Datasheet; ComponentLink1URL: https://product.tdk.com/info/en/catalog/datasheets/mlcc_commercial_lowprofile_en.pdf?ref_disty=digikey; ComponentLink2Description: DigiKey Link; ComponentLink2URL: http://digikey.com/product-detail/en/tdk-corporation/CGB2A1X7S0G105M033BC/445-13196-1-ND/3954862; Device Package: 0402 (1005 Metric); Features: Low Profile; LastUpdated: 9/2/2020 1:02:22 AM; Lifecycle Status: Active; Minimum Order: 1; Mounting Type: Surface Mount, MLCC; Operating Temperature: -55°C ~ 125°C; Package / Case: 0402 (1005 Metric); Packaging: TapeAndReel; PartId: 2474; Part Status: Active; Price: 0.04; Series: CGB; Size / Dimension: 0.039" L x 0.020" W (1.00mm x 0.50mm); Supplier 1: DigiKey; Supplier Part Number 1: 445-13196-1-ND; Temperature Coefficient: X7S; Thickness (Max): 0.013" (0.33mm); Voltage - Rated: 4V
footprint CAP 0402_1005
pins: 1, 2

## CGB2A1X7S0G474K033BC
designator C?, comment 0.47µF
CAP CER 0.47UF 4V X7S 0402; Part Number: CGB2A1X7S0G474K033BC; Manufacturer: TDK Corporation; Tolerance: ±10%; Value: 0.47µF; Applications: General Purpose; Capacitance: 0.47µF; ComponentLink1Description: Datasheet; ComponentLink1URL: https://product.tdk.com/info/en/catalog/datasheets/mlcc_commercial_lowprofile_en.pdf?ref_disty=digikey; ComponentLink2Description: DigiKey Link; ComponentLink2URL: http://digikey.com/product-detail/en/tdk-corporation/CGB2A1X7S0G474K033BC/445-13197-1-ND/3954863; Device Package: 0402 (1005 Metric); Features: Low Profile; LastUpdated: 9/2/2020 1:01:54 AM; Lifecycle Status: Active; Minimum Order: 1; Mounting Type: Surface Mount, MLCC; Operating Temperature: -55°C ~ 125°C; Package / Case: 0402 (1005 Metric); Packaging: TapeAndReel; PartId: 12039; Part Status: Active; Price: 0.03; Series: CGB; Size / Dimension: 0.039" L x 0.020" W (1.00mm x 0.50mm); Supplier 1: DigiKey; Supplier Part Number 1: 445-13197-1-ND; Temperature Coefficient: X7S; Thickness (Max): 0.013" (0.33mm); Voltage - Rated: 4V
footprint CAP 0402_1005
pins: 1, 2

## CGB2A1X7S0G474M033BC
designator C?, comment 0.47µF
CAP CER 0.47UF 4V X7S 0402; Part Number: CGB2A1X7S0G474M033BC; Manufacturer: TDK Corporation; Tolerance: ±20%; Value: 0.47µF; Applications: General Purpose; Capacitance: 0.47µF; ComponentLink1Description: Datasheet; ComponentLink1URL: https://product.tdk.com/info/en/catalog/datasheets/mlcc_commercial_lowprofile_en.pdf?ref_disty=digikey; ComponentLink2Description: DigiKey Link; ComponentLink2URL: http://digikey.com/product-detail/en/tdk-corporation/CGB2A1X7S0G474M033BC/445-13198-1-ND/3954864; Device Package: 0402 (1005 Metric); Features: Low Profile; LastUpdated: 9/2/2020 1:01:55 AM; Lifecycle Status: Active; Minimum Order: 1; Mounting Type: Surface Mount, MLCC; Operating Temperature: -55°C ~ 125°C; Package / Case: 0402 (1005 Metric); Packaging: TapeAndReel; PartId: 12002; Part Status: Active; Price: 0.03; Series: CGB; Size / Dimension: 0.039" L x 0.020" W (1.00mm x 0.50mm); Supplier 1: DigiKey; Supplier Part Number 1: 445-13198-1-ND; Temperature Coefficient: X7S; Thickness (Max): 0.013" (0.33mm); Voltage - Rated: 4V
footprint CAP 0402_1005
pins: 1, 2

## CGB2A1X7S0J105K033BC
designator C?, comment 1µF
CAP CER 1UF 6.3V X7S 0402; Part Number: CGB2A1X7S0J105K033BC; Manufacturer: TDK Corporation; Tolerance: ±10%; Value: 1µF; Applications: General Purpose; Capacitance: 1µF; ComponentLink1Description: Datasheet; ComponentLink1URL: https://product.tdk.com/info/en/catalog/datasheets/mlcc_commercial_lowprofile_en.pdf?ref_disty=digikey; ComponentLink2Description: DigiKey Link; ComponentLink2URL: http://digikey.com/product-detail/en/tdk-corporation/CGB2A1X7S0J105K033BC/445-13199-1-ND/3954865; Device Package: 0402 (1005 Metric); Features: Low Profile; LastUpdated: 9/2/2020 1:02:07 AM; Lifecycle Status: Active; Minimum Order: 1; Mounting Type: Surface Mount, MLCC; Operating Temperature: -55°C ~ 125°C; Package / Case: 0402 (1005 Metric); Packaging: TapeAndReel; PartId: 9757; Part Status: Active; Price: 0.03; Series: CGB; Size / Dimension: 0.039" L x 0.020" W (1.00mm x 0.50mm); Supplier 1: DigiKey; Supplier Part Number 1: 445-13199-1-ND; Temperature Coefficient: X7S; Thickness (Max): 0.013" (0.33mm); Voltage - Rated: 6.3V
footprint CAP 0402_1005
pins: 1, 2

## CGB2A1X7S0J105M033BC
designator C?, comment 1µF
CAP CER 1UF 6.3V X7S 0402; Part Number: CGB2A1X7S0J105M033BC; Manufacturer: TDK Corporation; Tolerance: ±20%; Value: 1µF; Applications: General Purpose; Capacitance: 1µF; ComponentLink1Description: Datasheet; ComponentLink1URL: https://product.tdk.com/info/en/catalog/datasheets/mlcc_commercial_lowprofile_en.pdf?ref_disty=digikey; ComponentLink2Description: DigiKey Link; ComponentLink2URL: http://digikey.com/product-detail/en/tdk-corporation/CGB2A1X7S0J105M033BC/445-13200-1-ND/3954866; Device Package: 0402 (1005 Metric); Features: Low Profile; LastUpdated: 9/2/2020 1:01:56 AM; Lifecycle Status: Active; Minimum Order: 1; Mounting Type: Surface Mount, MLCC; Operating Temperature: -55°C ~ 125°C; Package / Case: 0402 (1005 Metric); Packaging: TapeAndReel; PartId: 11957; Part Status: Active; Price: 0.03; Series: CGB; Size / Dimension: 0.039" L x 0.020" W (1.00mm x 0.50mm); Supplier 1: DigiKey; Supplier Part Number 1: 445-13200-1-ND; Temperature Coefficient: X7S; Thickness (Max): 0.013" (0.33mm); Voltage - Rated: 6.3V
footprint CAP 0402_1005
pins: 1, 2

## CGB2A3JB0G105K033BB
designator C?, comment 1µF
CAP CER 1UF 4V JB 0402; Part Number: CGB2A3JB0G105K033BB; Manufacturer: TDK Corporation; Tolerance: ±10%; Value: 1µF; Applications: General Purpose; Capacitance: 1µF; ComponentLink1Description: Datasheet; ComponentLink1URL: https://product.tdk.com/info/en/catalog/datasheets/mlcc_commercial_lowprofile_en.pdf?ref_disty=digikey; ComponentLink2Description: DigiKey Link; ComponentLink2URL: http://digikey.com/product-detail/en/tdk-corporation/CGB2A3JB0G105K033BB/445-13201-1-ND/3954867; Device Package: 0402 (1005 Metric); Features: Low Profile; LastUpdated: 9/2/2020 1:01:58 AM; Lifecycle Status: Active; Minimum Order: 1; Mounting Type: Surface Mount, MLCC; Operating Temperature: -25°C ~ 85°C; Package / Case: 0402 (1005 Metric); Packaging: TapeAndReel; PartId: 11896; Part Status: Active; Price: 0.02; Series: CGB; Size / Dimension: 0.039" L x 0.020" W (1.00mm x 0.50mm); Supplier 1: DigiKey; Supplier Part Number 1: 445-13201-1-ND; Temperature Coefficient: JB; Thickness (Max): 0.013" (0.33mm); Voltage - Rated: 4V
footprint CAP 0402_1005
pins: 1, 2

## CGB2A3JB0G105M033BB
designator C?, comment 1µF
CAP CER 1UF 4V JB 0402; Part Number: CGB2A3JB0G105M033BB; Manufacturer: TDK Corporation; Tolerance: ±20%; Value: 1µF; Applications: General Purpose; Capacitance: 1µF; ComponentLink1Description: Datasheet; ComponentLink1URL: https://product.tdk.com/info/en/catalog/datasheets/mlcc_commercial_lowprofile_en.pdf?ref_disty=digikey; ComponentLink2Description: DigiKey Link; ComponentLink2URL: http://digikey.com/product-detail/en/tdk-corporation/CGB2A3JB0G105M033BB/445-13202-1-ND/3954868; Device Package: 0402 (1005 Metric); Features: Low Profile; LastUpdated: 9/2/2020 1:01:25 AM; Lifecycle Status: Active; Minimum Order: 1; Mounting Type: Surface Mount, MLCC; Operating Temperature: -25°C ~ 85°C; Package / Case: 0402 (1005 Metric); Packaging: TapeAndReel; PartId: 13064; Part Status: Active; Price: 0.02; Series: CGB; Size / Dimension: 0.039" L x 0.020" W (1.00mm x 0.50mm); Supplier 1: DigiKey; Supplier Part Number 1: 445-13202-1-ND; Temperature Coefficient: JB; Thickness (Max): 0.013" (0.33mm); Voltage - Rated: 4V
footprint CAP 0402_1005
pins: 1, 2